# Altium integrated library rocket.IntLib: 22 symbols
Pins are listed as number, name and electrical type; pins without a type are passive.

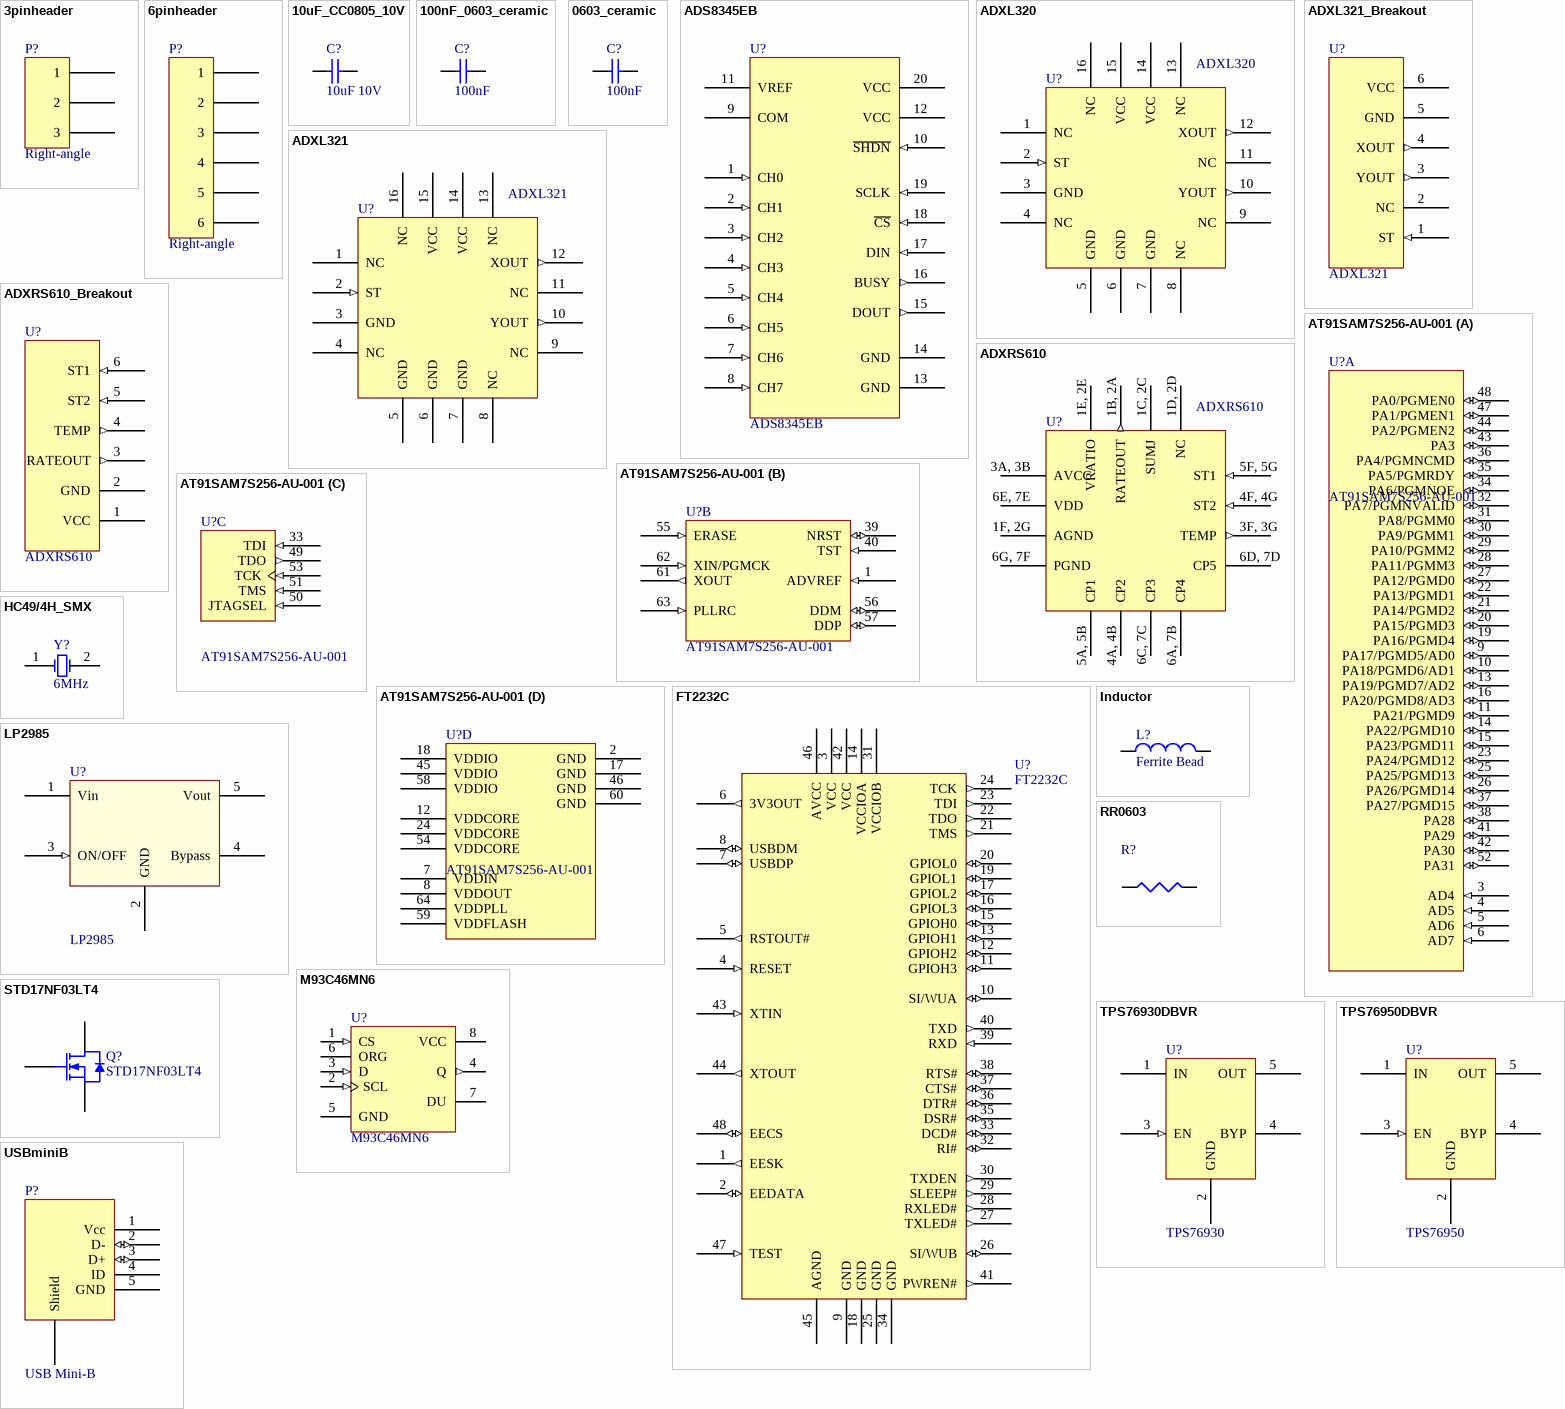
[diagram p0: symbols 3pinheader to USBminiB]

## 3pinheader
designator P?, comment Right-angle
3 pin 2.54mm pitch right-angle header; Supplier_Component_Code: HM-3423; published: 14/01/2008; Supplier_Name: Soanar; price: 0.12; value: Right-angle
footprint 3pinheader (3 pin 2.54mm pitch right angle header)
3D model 3pinheader (PCB3D Model)
pins: 1 "Pin 1", 2 "Pin 2", 3 "Pin 3"
1 alternate drawing of the same symbol

## 6pinheader
designator P?, comment Right-angle
6 pin 2.54mm pitch right-angle header; Supplier_Component_Code: HM-3426; published: 14/01/2008; Supplier_Name: Soanar; price: 0.23; value: Right-angle
footprint 6pinheader (6 pin 2.54mm pitch right angle header)
3D model 6pinheader (PCB3D Model)
pins: 1 "Pin 1", 2 "Pin 2", 3 "Pin 3", 4 "Pin 4", 5 "Pin 5", 6 "Pin 6"
1 alternate drawing of the same symbol

## 10uF_CC0805_10V
designator C?, comment 10uF 10V
0805Capacitor (Ceramic); Supplier_Component_Code: 9402136; published: 11/01/2008; Supplier_Name: Farnell; price: .769; value: 10uF 10V
footprint 0805 (0805 package; Body 2.0 x 1.3 mm (LxW typ))
pins: 1, 2
1 alternate drawing of the same symbol

## 100nF_0603_ceramic
designator C?, comment 100nF
100nF 0603 ceramic capacitor; value: 100nF
footprint CC0603 (Chip Capacitor; Body 1.6 x 0.8 mm (LxW typ))
pins: 1, 2
1 alternate drawing of the same symbol

## 0603_ceramic
designator C?, comment 100nF
0603 ceramic capacitor; value: 100nF
footprint CC0603 (Chip Capacitor; Body 1.6 x 0.8 mm (LxW typ))
pins: 1, 2
1 alternate drawing of the same symbol

## ADS8345EB
designator U?  value ADS8345EB
100kSPS 8 Channel 16-bit SDI ADC
pins: 1 CH0 (in) "Analog input 0", 2 CH1 (in) "Analog input 1", 3 CH2 (in) "Analog input 2", 4 CH3 (in) "Analog input 3", 5 CH4 (in) "Analog input 4", 6 CH5 (in) "Analog input 5", 7 CH6 (in) "Analog input 6", 8 CH7 (in) "Analog input 7", 9 COM (power) "Common reference voltage input", 10 ~{SHDN} (in) "Shutdown Input", 11 VREF (power) "Reference voltage input", 12 VCC (power) "Power supply input", 13 GND (power) "Ground", 14 GND (power) "Ground", 15 DOUT (out) "Serial data output", 16 BUSY (out) "Busy flag", 17 DIN (in) "Serial data in", 18 ~{CS} (in) "Chip select", 19 SCLK (in) "Serial clock input", 20 VCC (power) "Power supply input"

## ADXL320
designator U?  value ADXL320
5g Analog output XY Accelerometer
pins: 1 NC, 2 ST (in) "Input", 3 GND (power) "Ground", 4 NC, 5 GND (power) "Ground", 6 GND (power) "Ground", 7 GND (power) "Ground", 8 NC, 9 NC, 10 YOUT (out) "Yout", 11 NC, 12 XOUT (out) "Xout", 13 NC, 14 VCC (power), 15 VCC (power), 16 NC

## ADXL321
designator U?  value ADXL321
18g Analog output XY Accelerometer
pins: 1 NC, 2 ST (in) "Input", 3 GND (power) "Ground", 4 NC, 5 GND (power) "Ground", 6 GND (power) "Ground", 7 GND (power) "Ground", 8 NC, 9 NC, 10 YOUT (out) "Yout", 11 NC, 12 XOUT (out) "Xout", 13 NC, 14 VCC (power), 15 VCC (power), 16 NC

## ADXL321_Breakout
designator U?  value ADXL321
18g Analog output XY Accelerometer breakout
pins: 1 ST (in) "Input", 2 NC, 3 YOUT (out) "Yout", 4 XOUT (out) "Xout", 5 GND (power) "Ground", 6 VCC (power)

## ADXRS610
designator U?  value ADXRS610
300 degree/s Analog output Z Gyro
pins: 1B, 2A RATEOUT (out) "Rate Out", 1C, 2C SUMJ "OpAmp summing junction", 1D, 2D NC, 1E, 2E VRATIO (power) "V Ratio", 1F, 2G AGND (power) "Analog Ground", 3A, 3B AVCC (power) "Positive Analog Supply", 3F, 3G TEMP (out) "Temp", 4A, 4B CP2 "Charge Pump Capacitor (22nF)", 4F, 4G ST2 (in) "Input", 5A, 5B CP1 "Charge Pump Capacitor (22nF)", 5F, 5G ST1 (in) "Input", 6A, 7B CP4 "Charge Pump Capacitor (22nF)", 6C, 7C CP3 "Charge Pump Capacitor (22nF)", 6D, 7D CP5 "HV Filter Capacitor (0.1uF)", 6E, 7E VDD (power) "Positive Charge Pump Supply", 6G, 7F PGND (power) "Charge Pump Return Ground"

## ADXRS610_Breakout
designator U?  value ADXRS610
300 degree/s Analog output Z Gyro breakout
pins: 1 VCC (power), 2 GND (power) "Ground", 3 RATEOUT (out) "RateOut", 4 TEMP (out) "Temp", 5 ST2 (in) "Self Test 2 Input", 6 ST1 (in) "Self Test 1 Input"

## AT91SAM7S256-AU-001
designator U?
Smart ARM Microcontroller, ARM7TDMI 32-Bit RISC CPU, 256KB Flash and 64KB SRAM, 64-Pin LQFP, Industrial, Pb-Free; ComponentLink1Description: Manufacturer Link; ComponentLink1URL: http://www.atmel.com; ComponentLink2Description: Datasheet; ComponentLink2URL: http://www.atmel.com/dyn/resources/prod_documents/6175s.pdf; value: AT91SAM7S256-AU-001
footprint LQFP64_L (Thin QFP, 64-Leads, Body 10x10mm, Pitch 0.5mm, IPC High Density)
part A pins: 3 AD4 (in), 4 AD5 (in), 5 AD6 (in), 6 AD7 (in), 9 PA17/PGMD5/AD0 (io), 10 PA18/PGMD6/AD1 (io), 11 PA21/PGMD9 (io), 13 PA19/PGMD7/AD2 (io), 14 PA22/PGMD10 (io), 15 PA23/PGMD11 (io), 16 PA20/PGMD8/AD3 (io), 19 PA16/PGMD4 (io), 20 PA15/PGMD3 (io), 21 PA14/PGMD2 (io), 22 PA13/PGMD1 (io), 23 PA24/PGMD12 (io), 25 PA25/PGMD13 (io), 26 PA26/PGMD14 (io), 27 PA12/PGMD0 (io), 28 PA11/PGMM3 (io), 29 PA10/PGMM2 (io), 30 PA9/PGMM1 (io), 31 PA8/PGMM0 (io), 32 PA7/PGMNVALID (io), 34 PA6/PGMNOE (io), 35 PA5/PGMRDY (io), 36 PA4/PGMNCMD (io), 37 PA27/PGMD15 (io), 38 PA28 (io), 41 PA29 (io), 42 PA30 (io), 43 PA3 (io), 44 PA2/PGMEN2 (io), 47 PA1/PGMEN1 (io), 48 PA0/PGMEN0 (io), 52 PA31 (io)
part B pins: 1 ADVREF (in), 39 NRST (io), 40 TST (in), 55 ERASE (in), 56 DDM (io), 57 DDP (io), 61 XOUT (out), 62 XIN/PGMCK (in), 63 PLLRC (in)
part C pins: 33 TDI (in), 49 TDO (out), 50 JTAGSEL (in), 51 TMS (in), 53 TCK (in)
part D pins: 2 GND (power), 7 VDDIN (power), 8 VDDOUT (power), 12 VDDCORE (power), 17 GND (power), 18 VDDIO (power), 24 VDDCORE (power), 45 VDDIO (power), 46 GND (power), 54 VDDCORE (power), 58 VDDIO (power), 59 VDDFLASH (power), 60 GND (power), 64 VDDPLL (power)

## FT2232C
designator U?
Dual USB UART/FIFO
footprint LQFP-48
pins: 1 EESK (out) "Clock signal to EEPROM", 2 EEDATA (io), 3 VCC (power), 4 RESET (in), 5 RSTOUT# (out), 6 3V3OUT (out), 7 USBDP (io), 8 USBDM (io), 9 GND (power), 10 SI/WUA (io), 11 GPIOH3 (io), 12 GPIOH2 (io), 13 GPIOH1 (io), 14 VCCIOA (power), 15 GPIOH0 (io), 16 GPIOL3 (io), 17 GPIOL2 (io), 18 GND (power), 19 GPIOL1 (io), 20 GPIOL0 (io), 21 TMS (out), 22 TDO (out), 23 TDI (out), 24 TCK (out), 25 GND (power), 26 SI/WUB (io), 27 TXLED# (out), 28 RXLED# (out), 29 SLEEP# (out), 30 TXDEN (out), 31 VCCIOB (power), 32 RI# (io), 33 DCD# (io), 34 GND (power), 35 DSR# (io), 36 DTR# (io), 37 CTS# (io), 38 RTS# (io), 39 RXD (in), 40 TXD (out), 41 PWREN# (out), 42 VCC (power), 43 XTIN (in), 44 XTOUT (out), 45 AGND (power), 46 AVCC (power), 47 TEST (in), 48 EECS (io)

## HC49/4H_SMX
designator Y?, comment 6MHz
Surface Mount Quartz Crystal; Note: PCB layout complies with manufacturer's recommendation.; Published: 17-Jul-2002; DatasheetDocument: 18-Oct-1999; PackageDocument: 18-Oct-1999; PackageReference: HC49/4H_SMX; Publisher: Altium Limited; ComponentLink1Description: Manufacturer Link; ComponentLink1URL: http://www.cmac.com/mt/; ComponentLink2Description: Datasheet; ComponentLink2URL: http://www.cmac.com/mt/databook/crystals/smd/hc49_4h_smx.pdf
footprint HC49/4H_SMX (Surface Mount Quartz Crystal; Body 13.4 (inc. leads) x 4.9 mm (LxW max))
pins: 1 OSC1, 2 OSC2

## Inductor
designator L?, comment Ferrite Bead
Ferrite Bead Inductor; Code_IEC: 1005; Value: 10mH; Published: 8-Jun-2000; LatestRevisionDate: 17-Jul-2002; LatestRevisionNote: Re-released for DXP Platform.; PackageReference: 0402-A; Publisher: Altium Limited; Code_JEITA: 0402
footprint 0402-A (Chip Inductor; Body 1 x 0.5 mm (LxW typ))
footprint L0603 (Chip Inductor; Body 1.6 x 0.8 mm (LxW typ))
footprint 2012_Chip (2012 Chip; Chip Inductor; Body 2.0 x 1.2 mm (LxW typ))
footprint 2029 (Chip Inductor; Body 2 x 1.2 mm (LxW typ))
footprint 3261 (3216 Chip; Chip Inductor; Body 3.2 x 1.6 mm (LxW typ))
footprint 4564_Chip (4564 Chip; Chip Inductor; Body 4.5 x 6.4 mm (LxW typ))
simulation model INDUCTOR (Inductor)
signal-integrity model Inductor
footprint 6-0805 (Chip Resistor; Body 2.0 x 1.3 mm (LxW typ))
footprint 0805
pins: 1, 2

## LP2985
designator U?
Voltage Regulator
footprint SO-G5/X.45 (SOT-23/SC-74A; 5 Leads; Body 3.1 x 3 mm, inc. leads (LxW max))
pins: 1 Vin (power), 2 GND (power), 3 ON/OFF (in), 4 Bypass, 5 Vout (power)

## M93C46MN6
designator U?
1Kb (x8/x16) Serial Microwire Bus EEPROM; Note: Do Not Use pin number 7 (DU).; Published: 24-Aug-2001; LatestRevisionDate: 6-Jun-2005; LatestRevisionNote: Stylized 3D Model Added.; DatasheetDocument: Feb-1999; PackageDocument: Jul-1999; PackageReference: SOP8; Publisher: Altium Limited; ComponentLink1Description: Manufacturer Link; ComponentLink1URL: http://www.st.com/
footprint SOP8 (Small Outline; 8 Leads; Body Width 3.9 mm; Pitch 1.27 mm)
3D model SOP8 (Small Outline; 8 Leads; Body Width 3.9 mm; Pitch 1.27 mm)
pins: 1 CS (in), 2 SCL (in), 3 D (in), 4 Q (out), 5 GND (power), 6 ORG, 7 DU, 8 VCC (power)

## RR0603
designator R?
0603 ceramic resistor
footprint RR0603 (Chip Resistor: Body 1.6 x 0.8 mm (LxW typ))
pins: 1, 2
1 alternate drawing of the same symbol

## STD17NF03LT4
designator Q?
30V N-channel enhancement mode MOSFET; Supplier_Name: Farnell; Supplier_Component_Code: 1291958; price: 0.93; value: STD17NF03LT4
footprint D-Pak (D-Pak footprint)
pins: 1 G, 2 D, 3 S

## TPS76930DBVR
designator U?, comment TPS76930
100mA 3.0V linear regulator with 70mV dropout; Supplier_Component_Code: 1575742; price: 2.23; value: TPS76930
footprint DBV005 (SOT-23/SC-74A; 5 Leads; Body 3 x 3 mm, inc. leads (LxW max))
pins: 1 IN (power) "Input supply", 2 GND (power) "Ground", 3 EN (in) "Enable", 4 BYP "Bypass pin", 5 OUT (power) "Output"

## TPS76950DBVR
designator U?, comment TPS76950
100mA 5.0V linear regulator with 70mV dropout; Supplier_Component_Code: 1575744; price: 2.23; value: TPS76950
footprint DBV005 (SOT-23/SC-74A; 5 Leads; Body 3 x 3 mm, inc. leads (LxW max))
pins: 1 IN (power) "Input supply", 2 GND (power) "Ground", 3 EN (in) "Enable", 4 BYP "Bypass pin", 5 OUT (power) "Output"

## USBminiB
designator P?, comment USB Mini-B
USB mini B-type connector, surface mount with shield; value: USB Mini-B
footprint USBminiB (USB mini-B plug; surface mount; four shield tabs)
pins: 1 Vcc (power) "USB +5V supply", 2 D- (io) "Data, -ve differential signal", 3 D+ (io) "Data, +ve differential signal", 4 ID "ID signal", 5 GND (power) "Ground pin", Shield "ID signal"